# Altium schematic symbol library A110LR09A.SchLib: 1 symbol
Pins are listed as number, name and electrical type; pins without a type are passive.

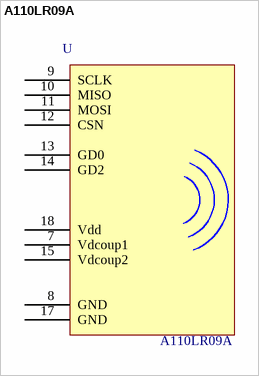
[diagram p0: symbol A110LR09A]

## A110LR09A
designator U  value A110LR09A  (hidden comment: *)
Manufacturer: Anaren Integrated Radio; Frequency: 868 MHz
footprint A110LR09A (Footprint not found)
pins: 7 Vdcoup1, 8 GND, 9 SCLK, 10 MISO, 11 MOSI, 12 CSN, 13 GD0, 14 GD2, 15 Vdcoup2, 17 GND, 18 Vdd